# Altium schematic symbol library Relay.SchLib: 7 symbols
Pins are listed as number, name and electrical type; pins without a type are passive.

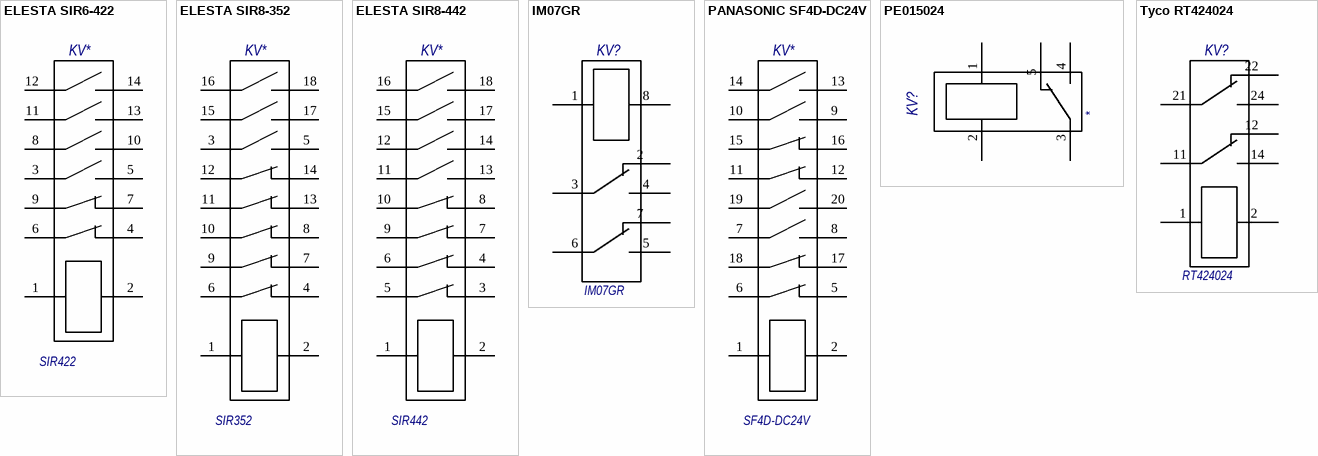
[diagram p0: symbols ELESTA SIR6-422 to Tyco RT424024]

## ELESTA SIR6-422
designator KV*  Type: SIR422  (hidden comment: *)
footprint SIR6
pins: 1, 2, 3, 4, 5, 6, 7, 8, 9, 10, 11, 12, 13, 14

## ELESTA SIR8-352
designator KV*  Type: SIR352  (hidden comment: *)
footprint SIR8
pins: 1, 2, 3, 4, 5, 6, 7, 8, 9, 10, 11, 12, 13, 14, 15, 16, 17, 18

## ELESTA SIR8-442
designator KV*  Type: SIR442  (hidden comment: *)
footprint SIR8
pins: 1, 2, 3, 4, 5, 6, 7, 8, 9, 10, 11, 12, 13, 14, 15, 16, 17, 18

## IM07GR
designator KV?  Type: IM07GR  (hidden comment: *)
footprint IM07GR
pins: 1, 2, 3, 4, 5, 6, 7, 8

## PANASONIC SF4D-DC24V
designator KV*  Type: SF4D-DC24V  (hidden comment: *)
footprint SF4D
pins: 1, 2, 5, 6, 7, 8, 9, 10, 11, 12, 13, 14, 15, 16, 17, 18, 19, 20

## PE015024
designator KV?
Type: *
footprint PE015024
pins: 1, 2, 3, 4, 5

## Tyco RT424024
designator KV?  Type: RT424024  (hidden comment: *)
footprint RT424024
pins: 1, 2, 11, 12, 14, 21, 22, 24